# EAGLE library part MAIN_CONNECTOR_14 (library Mechanical)
PTH: Digikey Part Number: Manufacturer Part Number: SMD: Digikey Part Number: H10965-ND Manufacturer Part Number: A3-14DA-2SV(71)
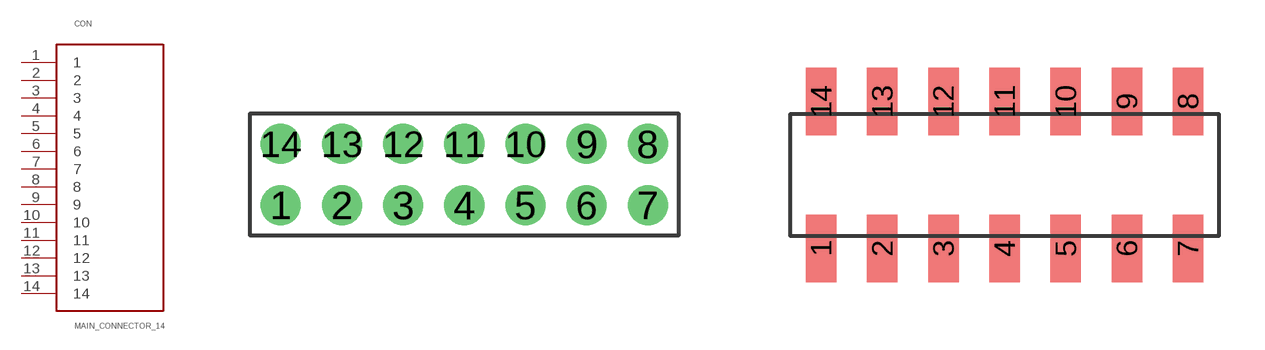
[diagram p3: symbol with the pads of FEMALE_HEADER_2MM_2X7; footprints FEMALE_HEADER_2MM_2X7, FEMALE_HEADER_2MM_2X7_SMD]

Designator prefix CON

## MAIN_CONNECTOR_14PTH  [FEMALE_HEADER_2MM_2X7]
1  1
2  2
3  3
4  4
5  5
6  6
7  7
8  8
9  9
10  10
11  11
12  12
13  13
14  14

## MAIN_CONNECTOR_14SMD  [FEMALE_HEADER_2MM_2X7_SMD]
Pads as for FEMALE_HEADER_2MM_2X7

## Footprint FEMALE_HEADER_2MM_2X7 (pad centres in mm)
drill 0.8: 1 -5,-1; 2 -3,-1; 3 -1,-1; 4 1,-1; 5 3,-1; 6 5,-1; 7 7,-1; 8 7,1; 9 5,1; 10 3,1; 11 1,1; 12 -1,1; 13 -3,1; 14 -5,1

## Footprint FEMALE_HEADER_2MM_2X7_SMD (pad centres in mm)
smd 1 x 2.2: 1 -6,-2.4; 2 -4,-2.4; 3 -2,-2.4; 4 0,-2.4; 5 2,-2.4; 6 4,-2.4; 7 6,-2.4; 8 6,2.4; 9 4,2.4; 10 2,2.4; 11 0,2.4; 12 -2,2.4; 13 -4,2.4; 14 -6,2.4